# Altium schematic symbol library Active_comp.SchLib: 6 symbols
Pins are listed as number, name and electrical type; pins without a type are passive.

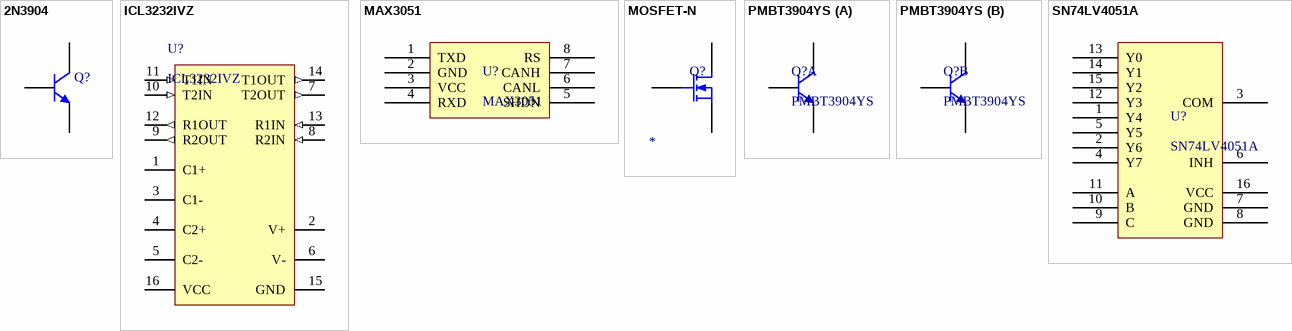
[diagram p0: symbols 2N3904 to SN74LV4051A]

## 2N3904
designator Q?
NPN General Purpose Amplifier; Published: 8-Jun-2000; LatestRevisionDate: 15-Jan-2003; LatestRevisionNote: PCB Footprint 'BCY-W3/D4.7' replaced; DatasheetVersion: 1997; PackageVersion: Sep-1998; PackageReference: TO-92A; Publisher: Altium Limited; PackageDescription: TO, Flat Index; 3 In-Line, Axial Leads; Body Dia. 4.5mm; Leads 0.51 x 0.48 mm (max); ComponentLink1Description: Manufacturer Link; ComponentLink1URL: http://www.fairchildsemi.com/; ComponentLink2Description: Datasheet; ComponentLink2URL: http://www.fairchildsemi.com/ds/2N%2F2N3904.pdf
footprint SOT95P240X120-3M (SOT23, 3-Leads, Body 2,92x2,40mm, Pitch 0,95mm, IPC Low Density)
pins: 1 E, 2 B, 3 C

## ICL3232IVZ
designator U?
RS-232 Interface IC; Supplier 1: Mouser; Supplier Part Number 1: 968-ICL3232IVZ; ComponentLink1URL: http://www.intersil.com/content/dam/Intersil/documents/icl3/icl3221-22-23-32-41-43.pdf; ComponentLink1Description: Datasheet
footprint TSSOP-16 low density (16pin TSSOP package with low density mounting)
pins: 1 C1+, 2 V+ (power), 3 C1-, 4 C2+, 5 C2-, 6 V- (power), 7 T2OUT (out), 8 R2IN (in), 9 R2OUT (out), 10 T2IN (in), 11 T1IN (in), 12 R1OUT (out), 13 R1IN (in), 14 T1OUT (out), 15 GND (power), 16 VCC (power)

## MAX3051
designator U?
footprint SOIC127P600X175-8M (SOIC, 8-Leads, Body 4,90x3,90mm, Pitch 1,27mm, IPC Low Density)
pins: 1 TXD, 2 GND, 3 VCC, 4 RXD, 5 SHDN, 6 CANL, 7 CANH, 8 RS

## MOSFET-N
designator Q?, comment N-channel MOSFET  (value not drawn)
PartNumber: *
footprint SOT95P230X110-3M (SOT23, 3-Leads, Body 2,90x2,30mm, Pitch 0,95mm, IPC Low Density)
pins: 1 D, 2 G, 3 S

## PMBT3904YS
designator Q?
ComponentLink1Description: Datasheet; ComponentLink1URL: http://www.nxp.com/documents/data_sheet/PMBT3904YS.pdf; Supplier 1: Digi-Key; Supplier 2: Farnell; Supplier Part Number 1: 568-6489-2-ND; Supplier Part Number 2: 2069534
footprint SOT363 (SC-88) (SOT363, 6-Leads, Body 2,00x1,25mm, Pitch 0,65mm, IPC Medium Density)
part A pins: 1 E, 2 B, 6 C
part B pins: 3 C, 4 E, 5 B

## SN74LV4051A
designator U?
Analog Multiplexer/Demultiplexer; ComponentLink1URL: http://www.ti.com.cn/cn/lit/ds/symlink/sn74lv4051a.pdf; ComponentLink1Description: Datasheet
footprint TSOP65P640X120-16M (TSOP, 16-Leads, Body 5,00x4,40mm, Pitch 0,65mm, IPC Low Density)
pins: 1 Y4, 2 Y6, 3 COM, 4 Y7, 5 Y5, 6 INH, 7 GND, 8 GND, 9 C, 10 B, 11 A, 12 Y3, 13 Y0, 14 Y1, 15 Y2, 16 VCC